# EAGLE library part AXE612124-12PIN (library connectors)
AXE612124 Narrow Pitch Connectors, 0.4mm Pitch, 12PIN, Header Datasheet:https://www.mouser.com/datasheet/2/315/a4s-catalog-1075812.pdf
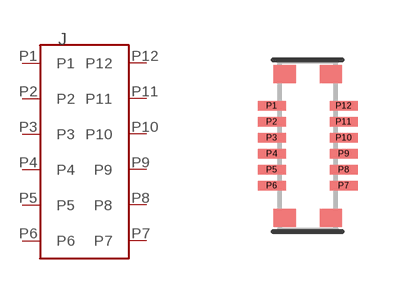
[diagram p0: symbol with the pads of AXE612124-12PIN; footprint AXE612124-12PIN]

Designator prefix J

## AXE612124-12PIN  [AXE612124-12PIN]
P1  P1
P2  P2
P3  P3
P4  P4
P5  P5
P6  P6
P7  P7
P8  P8
P9  P9
P10  P10
P11  P11
P12  P12

## Footprint AXE612124-12PIN (pad centres in mm)
smd 0.7 x 0.23: P1 -0.9,1; P2 -0.9,0.6; P3 -0.9,0.2; P4 -0.9,-0.2; P5 -0.9,-0.6; P6 -0.9,-1; P7 0.9,-1; P8 0.9,-0.6; P9 0.9,-0.2; P10 0.9,0.2; P11 0.9,0.6; P12 0.9,1